# EAGLE library part LL2811 (library lundahl)
LL2811
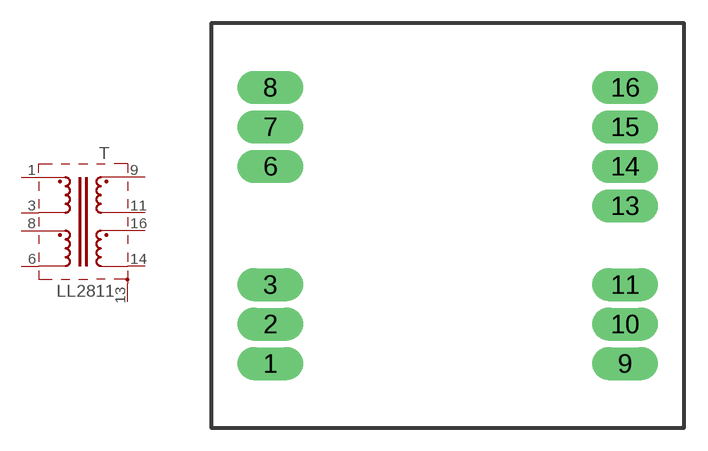
[diagram p16: symbol with the pads of LL2811; footprint LL2811]

Designator prefix T

## LL2811  [LL2811]
1  1  pas
3  3  pas
6  6  pas
8  8  pas
9  9  pas
11  11  pas
13  13  pas
14  14  pas
16  16  pas

## Footprint LL2811 (pad centres in mm)
LL2811
drill 1.422 long: 1 -11.43,-8.89; 2 -11.43,-6.35; 3 -11.43,-3.81; 6 -11.43,3.81; 7 -11.43,6.35; 8 -11.43,8.89; 9 11.43,-8.89; 10 11.43,-6.35; 11 11.43,-3.81; 13 11.43,1.27; 14 11.43,3.81; 15 11.43,6.35; 16 11.43,8.89